# Altium footprint library Additional Devices LC.PcbLib: 24 footprints (part 2 of 2)
Each footprint in its own frame and in the unit in brackets; x right, y up, seen from the top. Pads: shape width x height; smd on the part's side, far side on the other; paste and mask are expansions set on the pad; w line width, h text height; cw(c..) or ccw(c..) is an arc to the next point about the centre after c.
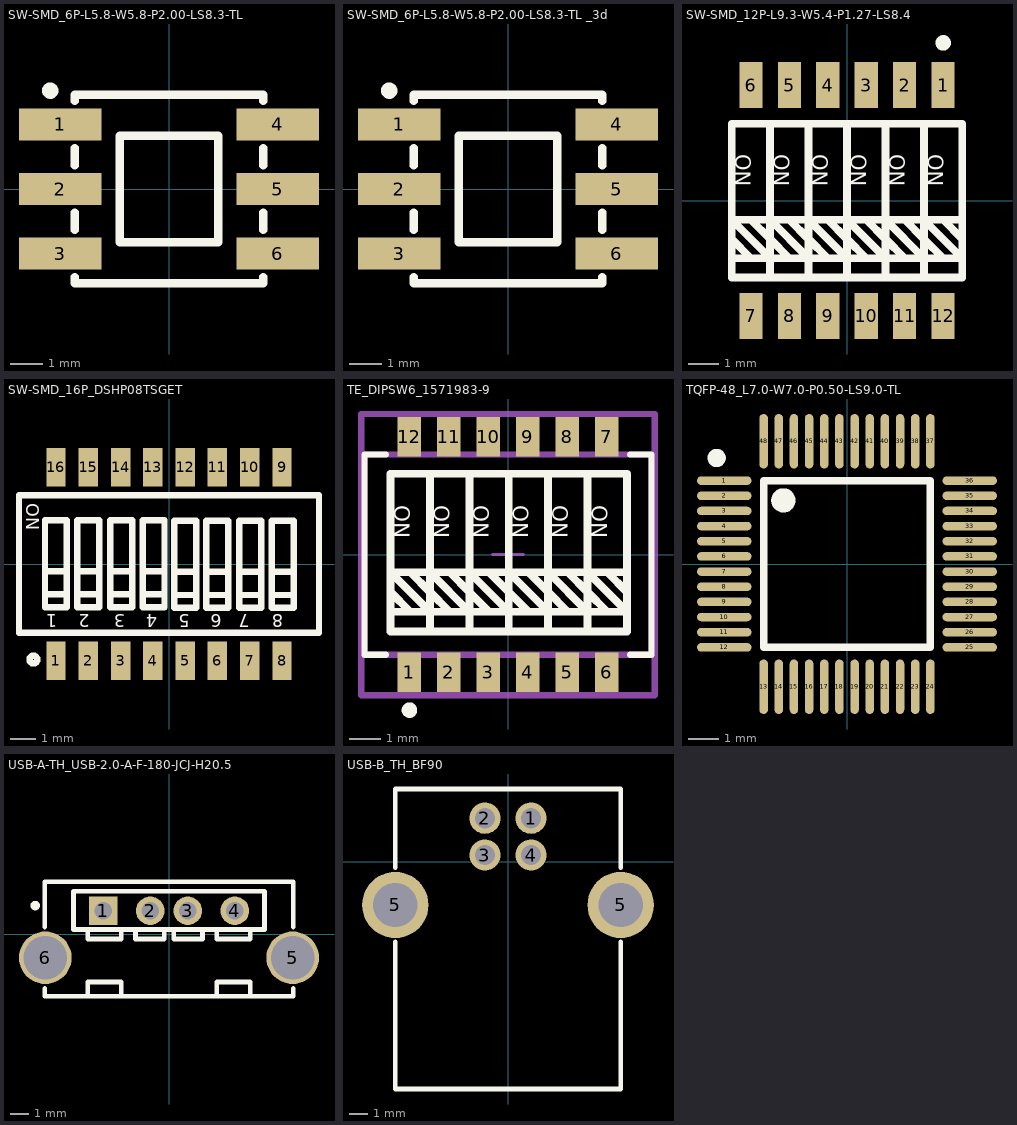
[diagram p1: the footprints below, top view; thin cyan lines are the x and y axes]

## SW-SMD_6P-L5.8-W5.8-P2.00-LS8.3-TL [mm]
pads (6):
  rect 2.55x1 smd: 1(-3.375,2) 2(-3.375,0) 3(-3.375,-2) 4(3.375,2) 5(3.375,0) 6(3.375,-2)
Top Overlay:
  circle w0.254: c-3.683,3.048 r0.127
  lines w0.254: -2.921,-2.731 -2.921,-2.921 2.921,-2.921 2.921,-2.731 ; -2.921,-1.269 -2.921,-0.731 ; -2.921,0.731 -2.921,1.269 ; -2.921,2.731 -2.921,2.921 2.921,2.921 2.921,2.731 ; 2.921,-1.269 2.921,-0.731 ; 2.921,0.731 2.921,1.269 ; -1.524,-1.651 1.524,-1.651 1.524,1.651 -1.524,1.651 -1.524,-1.651

## SW-SMD_6P-L5.8-W5.8-P2.00-LS8.3-TL _3d [mm]
pads (6):
  rect 2.55x1 smd: 1(-3.375,2) 2(-3.375,0) 3(-3.375,-2) 4(3.375,2) 5(3.375,0) 6(3.375,-2)
Top Overlay:
  circle w0.254: c-3.683,3.048 r0.127
  lines w0.254: -2.921,-2.731 -2.921,-2.921 2.921,-2.921 2.921,-2.731 ; -2.921,-1.269 -2.921,-0.731 ; -2.921,0.731 -2.921,1.269 ; -2.921,2.731 -2.921,2.921 2.921,2.921 2.921,2.731 ; 2.921,-1.269 2.921,-0.731 ; 2.921,0.731 2.921,1.269 ; -1.524,-1.651 -1.524,1.651 1.524,1.651 1.524,-1.651 -1.524,-1.651
3D body "xkb5858-z-tp.stp": height 10.25, standoff -0.05, extent -4.15,-2.9 4.15,2.9

## SW-SMD_12P-L9.3-W5.4-P1.27-LS8.4 [mil]
pads (12):
  rect 30x60 smd: 1(125,150) 2(75,150) 3(25,150) 4(-25,150) 5(-75,150) 6(-125,150) 7(-125,-150) 8(-75,-150) 9(-25,-150) 10(25,-150) 11(75,-150) 12(125,-150)
Top Overlay:
  circle w10: c125,205 r5
  lines w10: -150,-75 -100,-75 ; -150,-50 -125,-75 ; -125,-25 -100,-50 -75,-75 ; -75,-25 -50,-50 -25,-75 ; -25,-25 0,-50 25,-75 ; 25,-25 50,-50 75,-75 ; 75,-25 100,-50 125,-75 ; 125,-25 150,-50 ; 150,-25 100,-25 ; -100,-100 -50,-100 ; -100,-100 -100,100 ; -100,-100 -100,100 ; -100,-100 -100,100 ; -100,-100 -150,-100 -150,100 -100,100 ; -100,-100 -100,100 ; -100,-100 -100,100 ; -100,-100 -100,100 ; -100,-75 -150,-25 -100,-25 ; -100,-75 -50,-75 ; -100,-25 -50,-25 ; -100,-25 -50,-75 ; -100,100 -50,100 ; -50,-100 -50,100 ; -50,-100 -50,100 ; -50,-100 -50,100 ; -50,-100 -50,100 ; -50,-100 -50,100 ; -50,-100 0,-100 ; -50,-75 0,-75 ; -50,-25 0,-25 ; -50,-25 0,-75 ; -50,100 0,100 ; 0,-100 0,100 ; 0,-100 0,100 ; 0,-100 0,100 ; 0,-100 0,100 ; 0,-100 50,-100 ; 0,-75 50,-75 ; 0,-25 50,-75 ; 0,-25 50,-25 ; 0,100 50,100 ; 50,-100 100,-100 ; 50,-100 50,100 ; 50,-100 50,100 ; 50,-100 50,100 ; 50,-75 100,-75 ; 50,-25 100,-25 ; 50,-25 100,-75 ; 50,100 100,100 ; 100,-100 100,100 ; 100,-100 150,-100 150,100 100,100 ; 100,-100 100,100 ; 100,-75 150,-75 100,-25
  text "ON" at 5,60 h20
  text "ON" at 55,60 h20
  text "ON" at 105,60 h20
  text "ON" at -45,60 h20
  text "ON" at -95,60 h20
  text "ON" at -145,60 h20

## SW-SMD_16P_DSHP08TSGET [mil]
pads (16):
  rect 30x60 smd: 1(-175,-150) 2(-125,-150) 3(-75,-150) 4(-25,-150) 5(25,-150) 6(75,-150) 7(125,-150) 8(175,-150) 9(175,150) 10(125,150) 11(75,150) 12(25,150) 13(-25,150) 14(-75,150) 15(-125,150) 16(-175,150)
Top Overlay:
  circle w10: c-210,-148 r6
  lines w10: -232.28,-106.3 -232.28,106.3 232.28,106.3 232.28,-106.3 -232.28,-106.3 ; -192,-67 -192,68 -158,68 -158,-67 -192,-67 ; -192,-47 -192,-11 -158,-11 -158,-47 -192,-47 ; -142,-67 -142,68 -108,68 -108,-67 -142,-67 ; -142,-47 -142,-11 -108,-11 -108,-47 -142,-47 ; -91,-67 -91,68 -57,68 -57,-67 -91,-67 ; -91,-47 -91,-11 -57,-11 -57,-47 -91,-47 ; -41,-67 -41,68 -7,68 -7,-67 -41,-67 ; -41,-47 -41,-11 -7,-11 -7,-47 -41,-47 ; 8,-68 8,67 42,67 42,-68 8,-68 ; 8,-48 8,-12 42,-12 42,-48 8,-48 ; 58,-68 58,67 92,67 92,-68 58,-68 ; 58,-48 58,-12 92,-12 92,-48 58,-48 ; 109,-68 109,67 143,67 143,-68 109,-68 ; 109,-48 109,-12 143,-12 143,-48 109,-48 ; 159,-68 159,67 193,67 193,-68 159,-68 ; 159,-48 159,-12 193,-12 193,-48 159,-48
  text "8" at 177,-78 h20
  text "7" at 125.21,-78 h20
  text "6" at 82,-78 h20
  text "5" at 32,-78 h20
  text "4" at -18,-78 h20
  text "3" at -68,-78 h20
  text "2" at -123,-78 h20
  text "1" at -173,-78 h20
  text "ON" at -221,94 h20

## TE_DIPSW6_1571983-9 [mm]
pads (12):
  rect 0.76x1.27 smd paste+0 mask+0: 1(-3.175,-3.795) 2(-1.905,-3.795) 3(-0.635,-3.795) 4(0.635,-3.795) 5(1.905,-3.795) 6(3.175,-3.795) 7(3.175,3.795) 8(1.905,3.795) 9(0.635,3.795) 10(-0.635,3.795) 11(-1.905,3.795) 12(-3.175,3.795)
Top Overlay:
  circle w0.25: c-3.175,-5.01 r0.125
  lines w0.2: -3.93,-3.225 -4.625,-3.225 -4.625,3.225 -3.93,3.225 ; 3.93,-3.225 4.625,-3.225 4.625,3.225 3.93,3.225
  lines w0.254: -3.786,-1.84 -2.516,-1.84 ; -3.786,-1.205 -3.151,-1.84 ; -3.151,-0.57 -2.516,-1.205 -1.881,-1.84 ; -1.881,-0.57 -1.246,-1.205 -0.611,-1.84 ; -0.611,-0.57 0.024,-1.205 0.659,-1.84 ; 0.659,-0.57 1.294,-1.205 1.929,-1.84 ; 1.929,-0.57 2.564,-1.205 3.199,-1.84 ; 3.199,-0.57 3.834,-1.205 ; 3.834,-0.57 2.564,-0.57 ; -2.516,-2.475 -2.516,2.605 ; -2.516,-2.475 -2.516,2.605 ; -2.516,-2.475 -2.516,2.605 ; -2.516,-2.475 -3.786,-2.475 -3.786,2.605 -2.516,2.605 ; -2.516,-2.475 -2.516,2.605 ; -2.516,-2.475 -2.516,2.605 ; -2.516,-2.475 -2.516,2.605 ; -2.516,-2.475 -1.246,-2.475 ; -2.516,-1.84 -1.246,-1.84 ; -2.516,-1.84 -3.786,-0.57 -2.516,-0.57 ; -2.516,-0.57 -1.246,-1.84 ; -2.516,-0.57 -1.246,-0.57 ; -2.516,2.605 -1.246,2.605 ; -1.246,-2.475 0.024,-2.475 ; -1.246,-2.475 -1.246,2.605 ; -1.246,-2.475 -1.246,2.605 ; -1.246,-2.475 -1.246,2.605 ; -1.246,-2.475 -1.246,2.605 ; -1.246,-2.475 -1.246,2.605 ; -1.246,-1.84 0.024,-1.84 ; -1.246,-0.57 0.024,-1.84 ; -1.246,-0.57 0.024,-0.57 ; -1.246,2.605 0.024,2.605 ; 0.024,-2.475 1.294,-2.475 ; 0.024,-2.475 0.024,2.605 ; 0.024,-2.475 0.024,2.605 ; 0.024,-2.475 0.024,2.605 ; 0.024,-2.475 0.024,2.605 ; 0.024,-1.84 1.294,-1.84 ; 0.024,-0.57 1.294,-0.57 ; 0.024,-0.57 1.294,-1.84 ; 0.024,2.605 1.294,2.605 ; 1.294,-2.475 1.294,2.605 ; 1.294,-2.475 1.294,2.605 ; 1.294,-2.475 1.294,2.605 ; 1.294,-2.475 2.564,-2.475 ; 1.294,-1.84 2.564,-1.84 ; 1.294,-0.57 2.564,-1.84 ; 1.294,-0.57 2.564,-0.57 ; 1.294,2.605 2.564,2.605 ; 2.564,-2.475 2.564,2.605 ; 2.564,-2.475 3.834,-2.475 3.834,2.605 2.564,2.605 ; 2.564,-2.475 2.564,2.605 ; 2.564,-1.84 3.834,-1.84 2.564,-0.57
  text "ON" at -3.659,1.589 h0.51
  text "ON" at -2.389,1.589 h0.51
  text "ON" at -1.119,1.589 h0.51
  text "ON" at 2.691,1.589 h0.51
  text "ON" at 1.421,1.589 h0.51
  text "ON" at 0.151,1.589 h0.51
Mechanical 10:
  lines w0.2: -4.725,-4.53 4.725,-4.53 4.725,4.53 -4.725,4.53 -4.725,-4.53
Mechanical 12:
  lines w0.2: -4.625,-3.225 4.625,-3.225 4.625,3.225 -4.625,3.225 -4.625,-3.225
Mechanical 15:
  lines w0.1: -0.5,0 0.5,0 ; 0,-0.5 0,0.5
  lines w0.2: -4.725,-4.53 4.725,-4.53 4.725,4.53 -4.725,4.53 -4.725,-4.53
3D body "Switch_TE_Connectivity_1571983-9_eec.STEP": height 2.56, standoff 0, extent -4.37,-4.065 4.37,4.065

## TQFP-48_L7.0-W7.0-P0.50-LS9.0-TL [mm]
pads (48):
  oval 1.8x0.28 smd: 1(-4.05,2.75) 2(-4.05,2.25) 3(-4.05,1.75) 4(-4.05,1.25) 5(-4.05,0.75) 6(-4.05,0.25) 7(-4.05,-0.25) 8(-4.05,-0.75) 9(-4.05,-1.25) 10(-4.05,-1.75) 11(-4.05,-2.25) 12(-4.05,-2.75) 25(4.05,-2.75) 26(4.05,-2.25) 27(4.05,-1.75) 28(4.05,-1.25) 29(4.05,-0.75) 30(4.05,-0.25) 31(4.05,0.25) 32(4.05,0.75) 33(4.05,1.25) 34(4.05,1.75) 35(4.05,2.25) 36(4.05,2.75)
  oval 0.28x1.8 smd: 13(-2.75,-4.05) 14(-2.25,-4.05) 15(-1.75,-4.05) 16(-1.25,-4.05) 17(-0.75,-4.05) 18(-0.25,-4.05) 19(0.25,-4.05) 20(0.75,-4.05) 21(1.25,-4.05) 22(1.75,-4.05) 23(2.25,-4.05) 24(2.75,-4.05) 37(2.75,4.05) 38(2.25,4.05) 39(1.75,4.05) 40(1.25,4.05) 41(0.75,4.05) 42(0.25,4.05) 43(-0.25,4.05) 44(-0.75,4.05) 45(-1.25,4.05) 46(-1.75,4.05) 47(-2.25,4.05) 48(-2.75,4.05)
Top Overlay:
  lines w0.254: -2.75,-2.75 2.75,-2.75 2.75,2.75 -2.75,2.75 -2.75,-2.75
  lines w0.3: -4.15,3.498 cw(c-4.3,3.499) -4.15,3.5
  lines w0.4: -1.9,2.095 cw(c-2.1,2.098) -1.9,2.101
3D body "TQFP-48.step": height 1.2, standoff 0, extent -4.597,-4.597 4.597,4.597

## USB-A-TH_USB-2.0-A-F-180-JCJ-H20.5 [mm]
pads (6):
  rect 1.524x1.524 hole 0.92: 1(-3.5,1.25)
  round 1.524 hole 0.92: 2(-1,1.25) 3(1,1.25) 4(3.5,1.25)
  round 2.8 hole 2.3: 5(6.575,-1.25) 6(-6.575,-1.25)
Top Overlay:
  circle w0.254: c-7.112,1.524 r0.127
  lines w0.254: -6.604,-2.881 -6.604,-3.302 6.604,-3.302 6.604,-3.048 6.604,-2.881 ; -6.604,0.381 -6.604,2.794 6.604,2.794 6.604,0.381 ; -5.08,0.254 5.08,0.254 5.08,2.286 -5.08,2.286 -5.08,0.254 ; -4.318,-3.302 -2.54,-3.302 -2.54,-2.54 -4.318,-2.54 -4.318,-3.302 ; -4.318,-0.254 -2.54,-0.254 -2.54,0.254 -4.318,0.254 -4.318,-0.254 ; -1.778,-0.254 -0.254,-0.254 -0.254,0.254 -1.778,0.254 -1.778,-0.254 ; 0.254,-0.254 1.778,-0.254 1.778,0.254 0.254,0.254 0.254,-0.254 ; 2.54,-3.302 4.318,-3.302 4.318,-2.54 2.54,-2.54 2.54,-3.302 ; 2.54,-0.254 4.318,-0.254 4.318,0.254 2.54,0.254 2.54,-0.254
3D body "CUI_DEVICES_UJ2-AV-4-TH.step": height 15, standoff -2.95, extent -7.5,-3.683 7.5,3.817

## USB-B_TH_BF90 [mm]
pads (6):
  round 1.7 hole 1.1: 1(1.25,2.355) 2(-1.25,2.355) 3(-1.25,0.355) 4(1.25,0.355)
  round 3.6 hole 2.4: 5(-6.116,-2.355) 5(6.116,-2.355)
Top Overlay:
  lines w0.254: -6.116,-4.354 -6.116,-12.343 6.116,-12.343 ; -6.116,-0.336 -6.116,3.941 ; 6.116,-12.341 6.116,-4.354 ; 6.116,-0.336 6.116,3.941
  lines w0.258: -6.116,-12.343 6.116,-12.343 ; -6.116,3.941 6.116,3.941
3D body "USB-BF_67068-7041.stp": height 10.7, standoff -4.52, extent -7.303,-12.439 7.557,4.561